# EAGLE library part LT3470A (library linear_tech_opendcc)
LT3470A - Micropower Buck Regulator with Integrated Boost and Catch Diodes # Low Quiescent Current: 35?A at 12VIN to 3.3VOUT # Integrated Boost and Catch Diodes # Input Range: 4V to 40V # 3.3V at 250mA from 4V to 40V Input # 5V at 250mA from 5.7V to 40V Input # Low Output Ripple: <10mV # < 1?A in Shutdown Mode # Output Voltage: 1.25V to 16V # Hysteretic Mode Control ? Low Ripple Burst Mode® Operation at Light Loads ? Continuous Operation at Higher Loads # Solution Size as Small as 50mm2 # Low Pro?le (0.75mm) 2mm × 3mm Thermally Enhanced 8-Lead DFN Package Manual Solder optimiized package
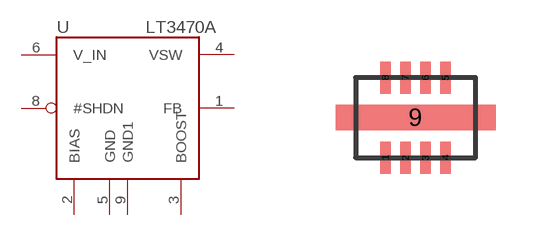
[diagram p13: symbol with the pads of DFN8; footprint DFN8]

Designator prefix -

## LT3470A  [DFN8]
1  FB  pas
2  BIAS
3  BOOST  pas
4  VSW  pas
5  GND  pwr
6  V_IN  pas
8  #SHDN  pas
9  GND1  pwr

## Footprint DFN8 (pad centres in mm)
DFN8, Center Pad, longer Pads for manual solder
smd 0.26 x 0.8: 1 -0.75,-1; 2 -0.25,-1; 3 0.25,-1; 4 0.75,-1; 5 0.75,1; 6 0.25,1; 7 -0.25,1; 8 -0.75,1
smd 4 x 0.635: 9 0,0